# Altium footprint library L50T-TEST.PcbLib: 34 footprints (part 3 of 3)
Each footprint in its own frame and in the unit in brackets; x right, y up, seen from the top. Pads: shape width x height; smd on the part's side, far side on the other; paste and mask are expansions set on the pad; w line width, h text height; cw(c..) or ccw(c..) is an arc to the next point about the centre after c.
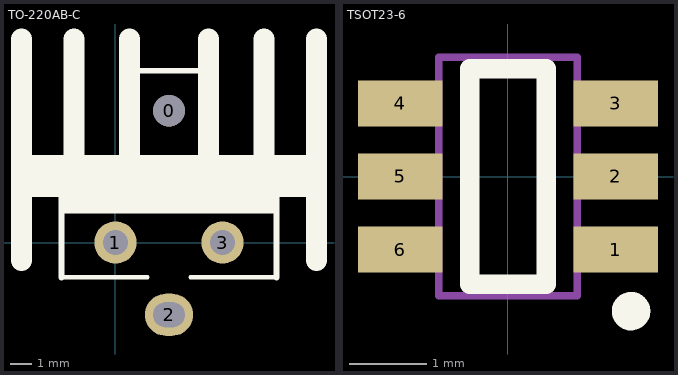
[diagram p2: the footprints below, top view; thin cyan lines are the x and y axes]

## TO-220AB-C [mm]
height 25
pads (4):
  round 1.5 hole 1.5: 0(2.54,6.258)
  round 2 hole 1.2: 1(0,0) 3(5.08,0)
  oval 2.3x2 hole 1.2 slot 1.5 at 0 deg: 2(2.54,-3.429)
Top Overlay:
  lines w0.203: -2.56,-1.651 1.524,-1.651 ; 3.556,-1.651 7.64,-1.651
  lines w0.254: 0.29,8.158 4.79,8.158
  lines w0.305: -2.56,-1.651 -2.56,2.849 7.62,2.849 ; -2.52,1.524 7.64,1.524 ; -2.52,1.778 7.64,1.778 ; -2.52,2.032 7.64,2.032 ; -2.52,2.286 7.64,2.286 ; -2.52,2.413 7.64,2.413 ; -2.52,2.667 7.64,2.667 ; 7.64,-1.651 7.64,2.849
  lines w1: -4.46,-0.842 -4.46,9.658 ; -1.96,3.158 -1.96,9.658 ; 0.655,3.158 0.655,9.658 ; 4.425,3.158 4.425,9.658 ; 7.04,3.158 7.04,9.658 ; 9.54,-0.842 9.54,9.658
  lines w2: -3.912,3.158 8.941,3.158

## TSOT23-6 [mm]
pads (6):
  rect 1.1x0.6 smd: 1(1.4,-0.95) 2(1.4,0) 3(1.4,0.95) 4(-1.4,0.95) 5(-1.4,0) 6(-1.4,-0.95)
Top Overlay:
  circle w0.25: c1.6,-1.75 r0.125
  lines w0.254: -0.5,-1.4 0.5,-1.4 0.5,1.4 -0.5,1.4 -0.5,-1.4
Mechanical 13:
  lines w0.1: -0.9,-1.55 0.9,-1.55 0.9,1.55 -0.9,1.55 -0.9,-1.55